# Altium schematic symbol library ASDLJ-E-49.152MHZ-L-R-T.SchLib: 1 symbol
Pins are listed as number, name and electrical type; pins without a type are passive.

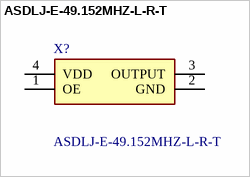
[diagram p0: symbol ASDLJ-E-49.152MHZ-L-R-T]

## ASDLJ-E-49.152MHZ-L-R-T
designator X?
49.152 MHz XO (Standard) CMOS Oscillator 3.3V Enable/Disable 4-SMD, No Lead; Manufacturer_Name: ABRACON; Geometry.Height: 1mm; Manufacturer_Part_Number: ASDLJ-E-49.152MHZ-L-R-T; Mouser Part Number: 815-ASDLJE49152MHLRT; Mouser Price/Stock: https://www.mouser.co.uk/ProductDetail/ABRACON/ASDLJ-E-49.152MHz-L-R-T?qs=wT7LY0lnAe3ZSqewNL8EtA%3D%3D; Arrow Part Number: *; Arrow Price/Stock: *; Datasheet Link: https://abracon.com/datasheets/ASDLJ.pdf
footprint ASDLJE49152MHZLRT
pins: 1 OE, 2 GND, 3 OUTPUT, 4 VDD